# EAGLE library part MKW21D (library ZIGBEE)
Freescale's new Kinetis KW20 wireless MCUs expands on the successful Kinetis MCU family based on the ARM® Cortex-M4 CPU core. The Kinetis KW20 Wireless MCU integrates a class-leading RF transceiver, Cortex-M4 and a robust feature set for reliable, secure, and low-power IEEE® 802.15.4 wireless solutions. Product Summary Page: http://www.freescale.com/webapp/sps/site/prod_summary.jsp?code=KW20 Datasheet: http://cache.freescale.com/files/rf_if/doc/data_sheet/MKW22D512V.pdf
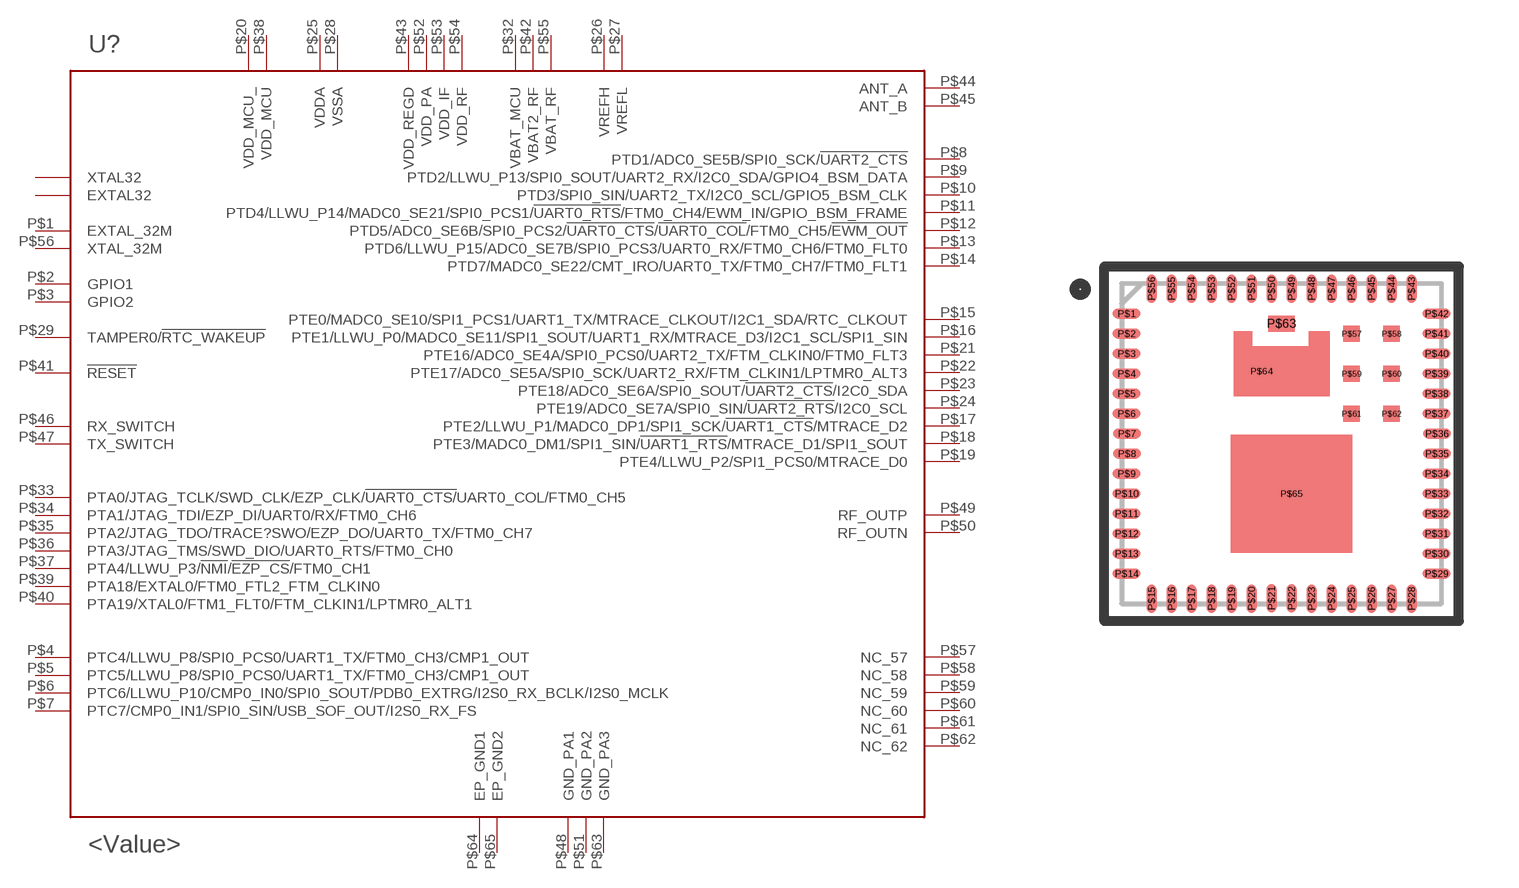
[diagram p0: symbol with the pads of LGA63; footprint LGA63]

Designator prefix -

## MKW21D  [LGA63]
P$1  EXTAL_32M
P$2  GPIO1
P$3  GPIO2
P$4  PTC4/LLWU_P8/SPI0_PCS0/UART1_TX/FTM0_CH3/CMP1_OUT
P$5  PTC5/LLWU_P8/SPI0_PCS0/UART1_TX/FTM0_CH3/CMP1_OUT
P$6  PTC6/LLWU_P10/CMP0_IN0/SPI0_SOUT/PDB0_EXTRG/I2S0_RX_BCLK/I2S0_MCLK
P$7  PTC7/CMP0_IN1/SPI0_SIN/USB_SOF_OUT/I2S0_RX_FS
P$8  PTD1/ADC0_SE5B/SPI0_SCK/!UART2_CTS
P$9  PTD2/LLWU_P13/SPI0_SOUT/UART2_RX/I2C0_SDA/GPIO4_BSM_DATA
P$10  PTD3/SPI0_SIN/UART2_TX/I2C0_SCL/GPIO5_BSM_CLK
P$11  PTD4/LLWU_P14/MADC0_SE21/SPI0_PCS1/!UART0_RTS!/FTM0_CH4/EWM_IN/GPIO_BSM_FRAME
P$12  PTD5/ADC0_SE6B/SPI0_PCS2/!UART0_CTS!/!UART0_COL!/FTM0_CH5/!EWM_OUT
P$13  PTD6/LLWU_P15/ADC0_SE7B/SPI0_PCS3/UART0_RX/FTM0_CH6/FTM0_FLT0
P$14  PTD7/MADC0_SE22/CMT_IRO/UART0_TX/FTM0_CH7/FTM0_FLT1
P$15  PTE0/MADC0_SE10/SPI1_PCS1/UART1_TX/MTRACE_CLKOUT/I2C1_SDA/RTC_CLKOUT
P$16  PTE1/LLWU_P0/MADC0_SE11/SPI1_SOUT/UART1_RX/MTRACE_D3/I2C1_SCL/SPI1_SIN
P$17  PTE2/LLWU_P1/MADC0_DP1/SPI1_SCK/!UART1_CTS!/MTRACE_D2
P$18  PTE3/MADC0_DM1/SPI1_SIN/!UART1_RTS!/MTRACE_D1/SPI1_SOUT
P$19  PTE4/LLWU_P2/SPI1_PCS0/MTRACE_D0
P$20  VDD_MCU_
P$21  PTE16/ADC0_SE4A/SPI0_PCS0/UART2_TX/FTM_CLKIN0/FTM0_FLT3
P$22  PTE17/ADC0_SE5A/SPI0_SCK/UART2_RX/FTM_CLKIN1/LPTMR0_ALT3
P$23  PTE18/ADC0_SE6A/SPI0_SOUT/!UART2_CTS!/I2C0_SDA
P$24  PTE19/ADC0_SE7A/SPI0_SIN/!UART2_RTS!/I2C0_SCL
P$25  VDDA
P$26  VREFH
P$27  VREFL
P$28  VSSA
P$29  TAMPER0/!RTC_WAKEUP
P$30  XTAL32
P$31  EXTAL32
P$32  VBAT_MCU
P$33  PTA0/JTAG_TCLK/SWD_CLK/EZP_CLK/!UART0_CTS/!UART0_COL/FTM0_CH5
P$34  PTA1/JTAG_TDI/EZP_DI/UART0/RX/FTM0_CH6
P$35  PTA2/JTAG_TDO/TRACE?SWO/EZP_DO/UART0_TX/FTM0_CH7
P$36  PTA3/JTAG_TMS/SWD_DIO/UART0_RTS/FTM0_CH0
P$37  PTA4/LLWU_P3/!NMI!/!EZP_CS!/FTM0_CH1
P$38  VDD_MCU
P$39  PTA18/EXTAL0/FTM0_FTL2_FTM_CLKIN0
P$40  PTA19/XTAL0/FTM1_FLT0/FTM_CLKIN1/LPTMR0_ALT1
P$41  !RESET
P$42  VBAT2_RF
P$43  VDD_REGD
P$44  ANT_A
P$45  ANT_B
P$46  RX_SWITCH
P$47  TX_SWITCH
P$48  GND_PA1
P$49  RF_OUTP
P$50  RF_OUTN
P$51  GND_PA2
P$52  VDD_PA
P$53  VDD_IF
P$54  VDD_RF
P$55  VBAT_RF
P$56  XTAL_32M
P$57  NC_57
P$58  NC_58
P$59  NC_59
P$60  NC_60
P$61  NC_61
P$62  NC_62
P$63  GND_PA3
P$64  EP_GND1
P$65  EP_GND2

## Footprint LGA63 (pad centres in mm)
smd 0.711 x 0.254: P$1 0.125,7.25; P$2 0.125,6.75; P$3 0.125,6.25; P$4 0.125,5.75; P$5 0.125,5.25; P$6 0.125,4.75; P$7 0.135,4.25; P$8 0.135,3.75; P$9 0.125,3.25; P$10 0.125,2.75; P$11 0.125,2.25; P$12 0.125,1.75; P$13 0.125,1.25; P$14 0.125,0.75; P$29 7.875,0.75; P$30 7.875,1.25; P$31 7.875,1.75; P$32 7.875,2.25; P$33 7.875,2.75; P$34 7.875,3.25; P$35 7.885,3.75; P$36 7.885,4.25; P$37 7.875,4.75; P$38 7.875,5.25; P$39 7.875,5.75; P$40 7.875,6.25; P$41 7.875,6.75; P$42 7.875,7.25
smd 0.254 x 0.711: P$15 0.75,0.125; P$16 1.25,0.125; P$17 1.75,0.125; P$18 2.25,0.125; P$19 2.75,0.125; P$20 3.25,0.125; P$21 3.75,0.135; P$22 4.25,0.135; P$23 4.75,0.125; P$24 5.25,0.125; P$25 5.75,0.125; P$26 6.25,0.125; P$27 6.75,0.125; P$28 7.25,0.125; P$43 7.25,7.875; P$44 6.75,7.875; P$45 6.25,7.875; P$46 5.75,7.875; P$47 5.25,7.874; P$48 4.751,7.874; P$49 4.25,7.874; P$50 3.75,7.875; P$51 3.25,7.875; P$52 2.75,7.875; P$53 2.25,7.875; P$54 1.75,7.875; P$55 1.25,7.875; P$56 0.75,7.875
smd 0.406 x 0.406: P$57 5.75,6.75; P$58 6.75,6.75; P$59 5.75,5.75; P$60 6.75,5.75; P$61 5.75,4.75; P$62 6.75,4.75
smd 0.66 x 0.406: P$63 4,7
smd 0.5 x 0.5: P$64 3.5,5.812; P$65 4.25,2.75